# Altium integrated library 796683-8.IntLib: 1 symbol
Pins are listed as number, name and electrical type; pins without a type are passive.

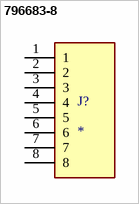
[diagram p0: symbol 796683-8]

## 796683-8
designator J?
MP: 796683-8; Package: None; Price: None; Value: *; Availability: Unavailable
footprint TE_796683-8
pins: 1, 2, 3, 4, 5, 6, 7, 8